# EAGLE library part LM3676 (library LM3676)
Switching Power Regulator. LM3676 Created by Nathaniel Dusciuc (10/20/2017) for ECE411.
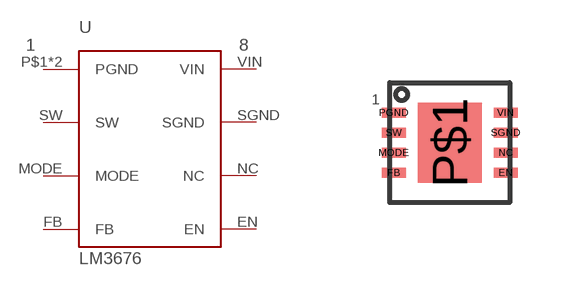
[diagram p0: symbol with the pads of WSON; footprint WSON]

Designator prefix U

## LM3676  [WSON]
EN  EN
FB  FB
MODE  MODE
NC  NC
P$1  PGND  pwr
PGND  PGND  pwr
SGND  SGND  pwr
SW  SW
VIN  VIN

## Footprint WSON (pad centres in mm)
smd 0.6 x 0.25: EN 1.4,-0.75; FB -1.4,-0.75; MODE -1.4,-0.25; NC 1.4,-0.25; PGND -1.4,0.75; SGND 1.4,0.25; SW -1.4,0.25; VIN 1.4,0.75
smd 1.6 x 2: P$1 0,0